# Altium schematic symbol library RES,75k,0.1%,0.063W,0402.Schlib: 1 symbol
Pins are listed as number, name and electrical type; pins without a type are passive.

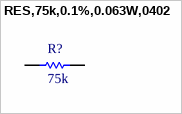
[diagram p0: symbol RES,75k,0.1%,0.063W,0402]

## RES,75k,0.1%,0.063W,0402
designator R?, comment 75k
75 kOhms ±0.1% 0.063W, 1/16W Chip Resistor 0402 (1005 Metric) - Thin Film
pins: 1, 2